# EAGLE library part IP4220 (library PAS)
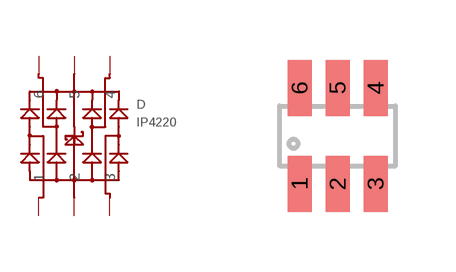
[diagram p12: symbol with the pads of TSOP-6; footprint TSOP-6]

Designator prefix D

## IP4220  [TSOP-6]
1  1  pas
2  2  pas
3  3  pas
4  4  pas
5  5  pas
6  6  pas

## Footprint TSOP-6 (pad centres in mm)
TSOP with .95 mm pitch. 6 pins ~3x1.5
smd 0.6 x 1.4: 1 -0.95,-1.2; 2 0,-1.2; 3 0.95,-1.2; 4 0.95,1.2; 5 0,1.2; 6 -0.95,1.2